# EAGLE library part SIM900 (library components)
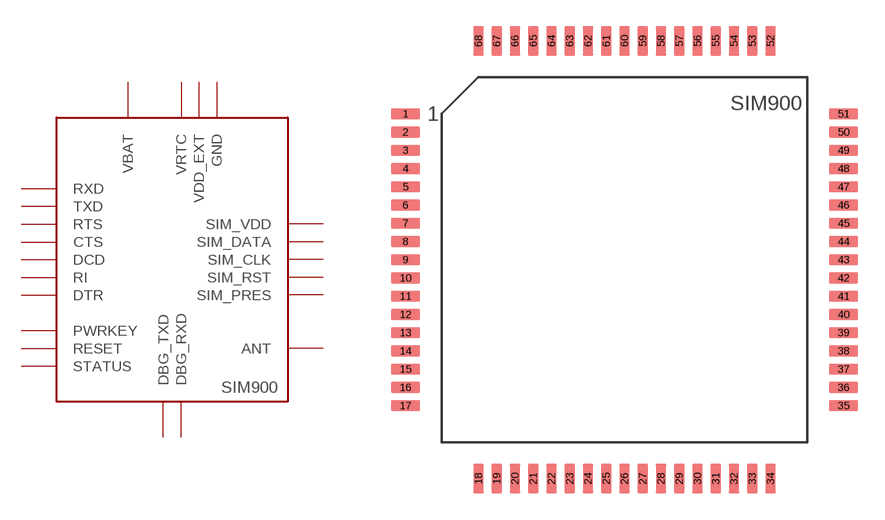
[diagram p24: symbol with the pads of SIM900; footprint SIM900]

Designator prefix U

## SIM900 (DESCRIPTION: SIM900 GSM/GPRS Quadband GSM Modem; FOOTPRINT: Custom SMD; MANU: SIMCOM; MPN: SIM900)  [SIM900]
1  PWRKEY
3  DTR
4  RI
5  DCD
7  CTS
8  RTS
9  TXD
10  RXD
15  VDD_EXT  pwr
16  RESET
17  GND  pwr
18  GND  pwr
26  VRTC  pwr
27  DBG_TXD
28  DBG_RXD
29  GND  pwr
30  SIM_VDD
31  SIM_DATA
32  SIM_CLK
33  SIM_RST
34  SIM_PRES
39  GND  pwr
45  GND  pwr
46  GND  pwr
53  GND  pwr
54  GND  pwr
55  VBAT  pwr
56  VBAT  pwr
57  VBAT  pwr
58  GND  pwr
59  GND  pwr
60  ANT
61  GND  pwr
62  GND  pwr
63  GND  pwr
64  GND  pwr
65  GND  pwr
66  STATUS

## Footprint SIM900 (pad centres in mm)
SIM900 GSM Module Package
smd 1.6 x 0.6: 1 -12,8; 2 -12,7; 3 -12,6; 4 -12,5; 5 -12,4; 6 -12,3; 7 -12,2; 8 -12,1; 9 -12,0; 10 -12,-1; 11 -12,-2; 12 -12,-3; 13 -12,-4; 14 -12,-5; 15 -12,-6; 16 -12,-7; 17 -12,-8; 35 12,-8; 36 12,-7; 37 12,-6; 38 12,-5; 39 12,-4; 40 12,-3; 41 12,-2; 42 12,-1; 43 12,0; 44 12,1; 45 12,2; 46 12,3; 47 12,4; 48 12,5; 49 12,6; 50 12,7; 51 12,8
smd 0.6 x 1.6: 18 -8,-12; 19 -7,-12; 20 -6,-12; 21 -5,-12; 22 -4,-12; 23 -3,-12; 24 -2,-12; 25 -1,-12; 26 0,-12; 27 1,-12; 28 2,-12; 29 3,-12; 30 4,-12; 31 5,-12; 32 6,-12; 33 7,-12; 34 8,-12; 52 8,12; 53 7,12; 54 6,12; 55 5,12; 56 4,12; 57 3,12; 58 2,12; 59 1,12; 60 0,12; 61 -1,12; 62 -2,12; 63 -3,12; 64 -4,12; 65 -5,12; 66 -6,12; 67 -7,12; 68 -8,12